# Altium schematic symbol library SCH - Interface - MCP2551-I_SN.SchLib: 1 symbol
Pins are listed as number, name and electrical type; pins without a type are passive.

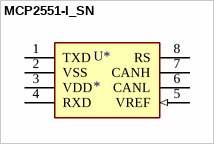
[diagram p0: symbol MCP2551-I_SN]

## MCP2551-I_SN
designator U*
pins: 1 TXD, 2 VSS (power), 3 VDD (power), 4 RXD, 5 VREF (in), 6 CANL, 7 CANH, 8 RS